# Altium schematic symbol library FYLS-5050RGB.SchLib: 1 symbol
Pins are listed as number, name and electrical type; pins without a type are passive.

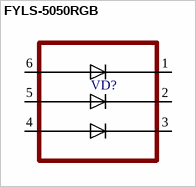
[diagram p0: symbol FYLS-5050RGB]

## FYLS-5050RGB
designator VD?
pins: 1, 2, 3, 4, 5, 6